# Altium footprint library SOIC127P780X200-8N.PcbLib: 1 footprints
Each footprint in its own frame and in the unit in brackets; x right, y up, seen from the top. Pads: shape width x height; smd on the part's side, far side on the other; paste and mask are expansions set on the pad; w line width, h text height; cw(c..) or ccw(c..) is an arc to the next point about the centre after c.
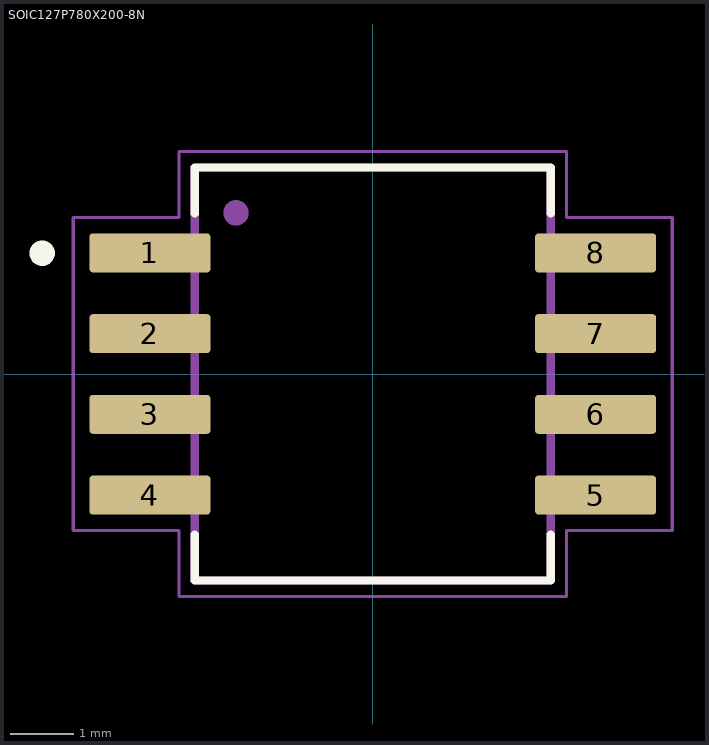
[diagram p0: the footprint, top view; thin cyan lines are the x and y axes]

## SOIC127P780X200-8N [mm]
pads (8):
  rrect15% 1.9x0.61 smd: 1(-3.505,1.905) 2(-3.505,0.635) 3(-3.505,-0.635) 4(-3.505,-1.905) 5(3.505,-1.905) 6(3.505,-0.635) 7(3.505,0.635) 8(3.505,1.905)
Top Overlay:
  circle w0.2: c-5.2,1.9 r0.1
  lines w0.127: -2.8,-2.527 -2.8,-3.25 2.8,-3.25 2.8,-2.527 ; -2.8,2.527 -2.8,3.25 2.8,3.25 2.8,2.527
Assembly Top:
  circle w0.2: c-2.152,2.535 r0.1
  lines w0.127: -2.8,-3.25 -2.8,3.25 2.8,3.25 2.8,-3.25 -2.8,-3.25
Courtyard Top:
  lines w0.05: -4.71,-2.46 -3.05,-2.46 -3.05,-3.5 3.05,-3.5 3.05,-2.46 4.71,-2.46 4.71,2.46 3.05,2.46 3.05,3.5 -3.05,3.5 -3.05,2.46 -4.71,2.46 -4.71,-2.46
3D body "step_temp.STEP": height 2, standoff 0, extent -3.9,-3.1 3.9,3.1